# Altium footprint library HY2.0.PcbLib: 1 footprints
Each footprint in its own frame and in the unit in brackets; x right, y up, seen from the top. Pads: shape width x height; smd on the part's side, far side on the other; paste and mask are expansions set on the pad; w line width, h text height; cw(c..) or ccw(c..) is an arc to the next point about the centre after c.
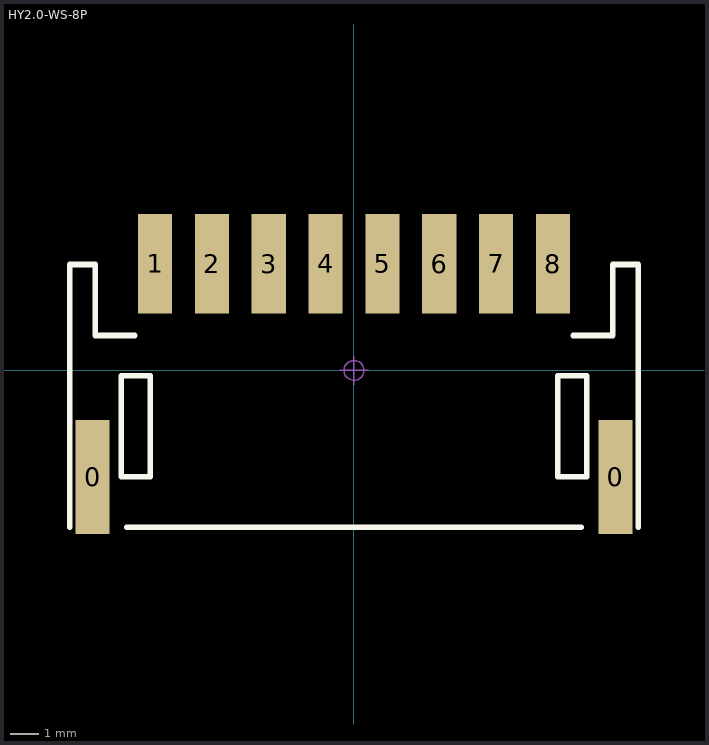
[diagram p0: the footprint, top view; thin cyan lines are the x and y axes]

## HY2.0-WS-8P [mm]
pads (10):
  rect 1.2x4 smd: 0(-9.2,-3.75) 0(9.2,-3.75)
  rect 1.2x3.5 smd: 1(-7,3.75) 2(-5,3.75) 3(-3,3.75) 4(-1,3.75) 5(1,3.75) 6(3,3.75) 7(5,3.75) 8(7,3.75)
Top Overlay:
  lines w0.2: -10,-5.522 -10,3.728 -9.111,3.728 -9.111,1.228 -7.714,1.228 ; -8,-5.522 8,-5.522 ; 7.714,1.228 9.111,1.228 9.111,3.728 10,3.728 10,-5.522 ; -8.191,-3.744 -7.175,-3.744 -7.175,-0.188 -8.191,-0.188 -8.191,-3.744 ; 7.175,-3.744 8.191,-3.744 8.191,-0.188 7.175,-0.188 7.175,-3.744
Mechanical 15:
  circle w0.05: c0,0 r0.35
  lines w0.05: -0.5,0 0.5,0 ; 0,-0.5 0,0.5
3D body "User Library-HY2_0-8P.STEP": height 5.1, standoff 0, extent -10,-5.522 10,4.478